# Altium schematic symbol library i.MX6_SoM.SCHLIB: 8 symbols
Pins are listed as number, name and electrical type; pins without a type are passive.

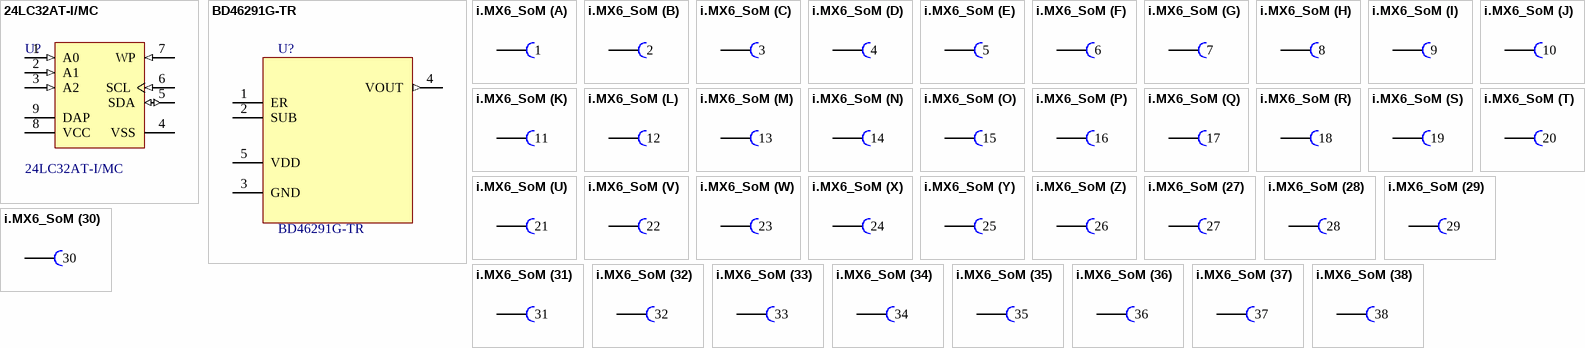
[diagram p0: symbols 24LC32AT-I/MC to i.MX6_SoM]

## 24LC32AT-I/MC
designator U?
32Kbit, 400kHz, 2.5V, I2C Serial EEPROM, 8-Pin DFN, Industrial Temperature, Tape and Reel; Manufacturer: Microchip; DatasheetVersion: revJ, Feb-2009; PackageDescription: 8-Lead Plastic Dual Flat, No Lead Package (MC) - 2x3x0.9mm Body [DFN]; PackageVersion: revBB, Aug-2009; PackageReference: DFN-MC8; Manufacturer Part Number: 24LC32AT-I/MC
footprint DFN-MC8 (SON, 8-Leads, Body 2x3mm, Pitch 0.5mm, Microchip Recommended)
pins: 1 A0 (in), 2 A1 (in), 3 A2 (in), 4 VSS (power), 5 SDA (io), 6 SCL (in), 7 WP (in), 8 VCC (power), 9 DAP (power)

## BD46291G-TR
designator U?
No Description Available; SourceLibrary: ROHM_2019-10-21; Built_By: EMA_Molly; Vendor: ROHM Semiconductor; Copyright: Copyright (C) 2018 Accelerated Designs. All rights reserved; Manufacturer_Part_Number: BD46291G-TR; RefDes: RefDes; Type: DEV
footprint SSOP5_ROM
pins: 1 ER, 2 SUB, 3 GND, 4 VOUT (out), 5 VDD (power)

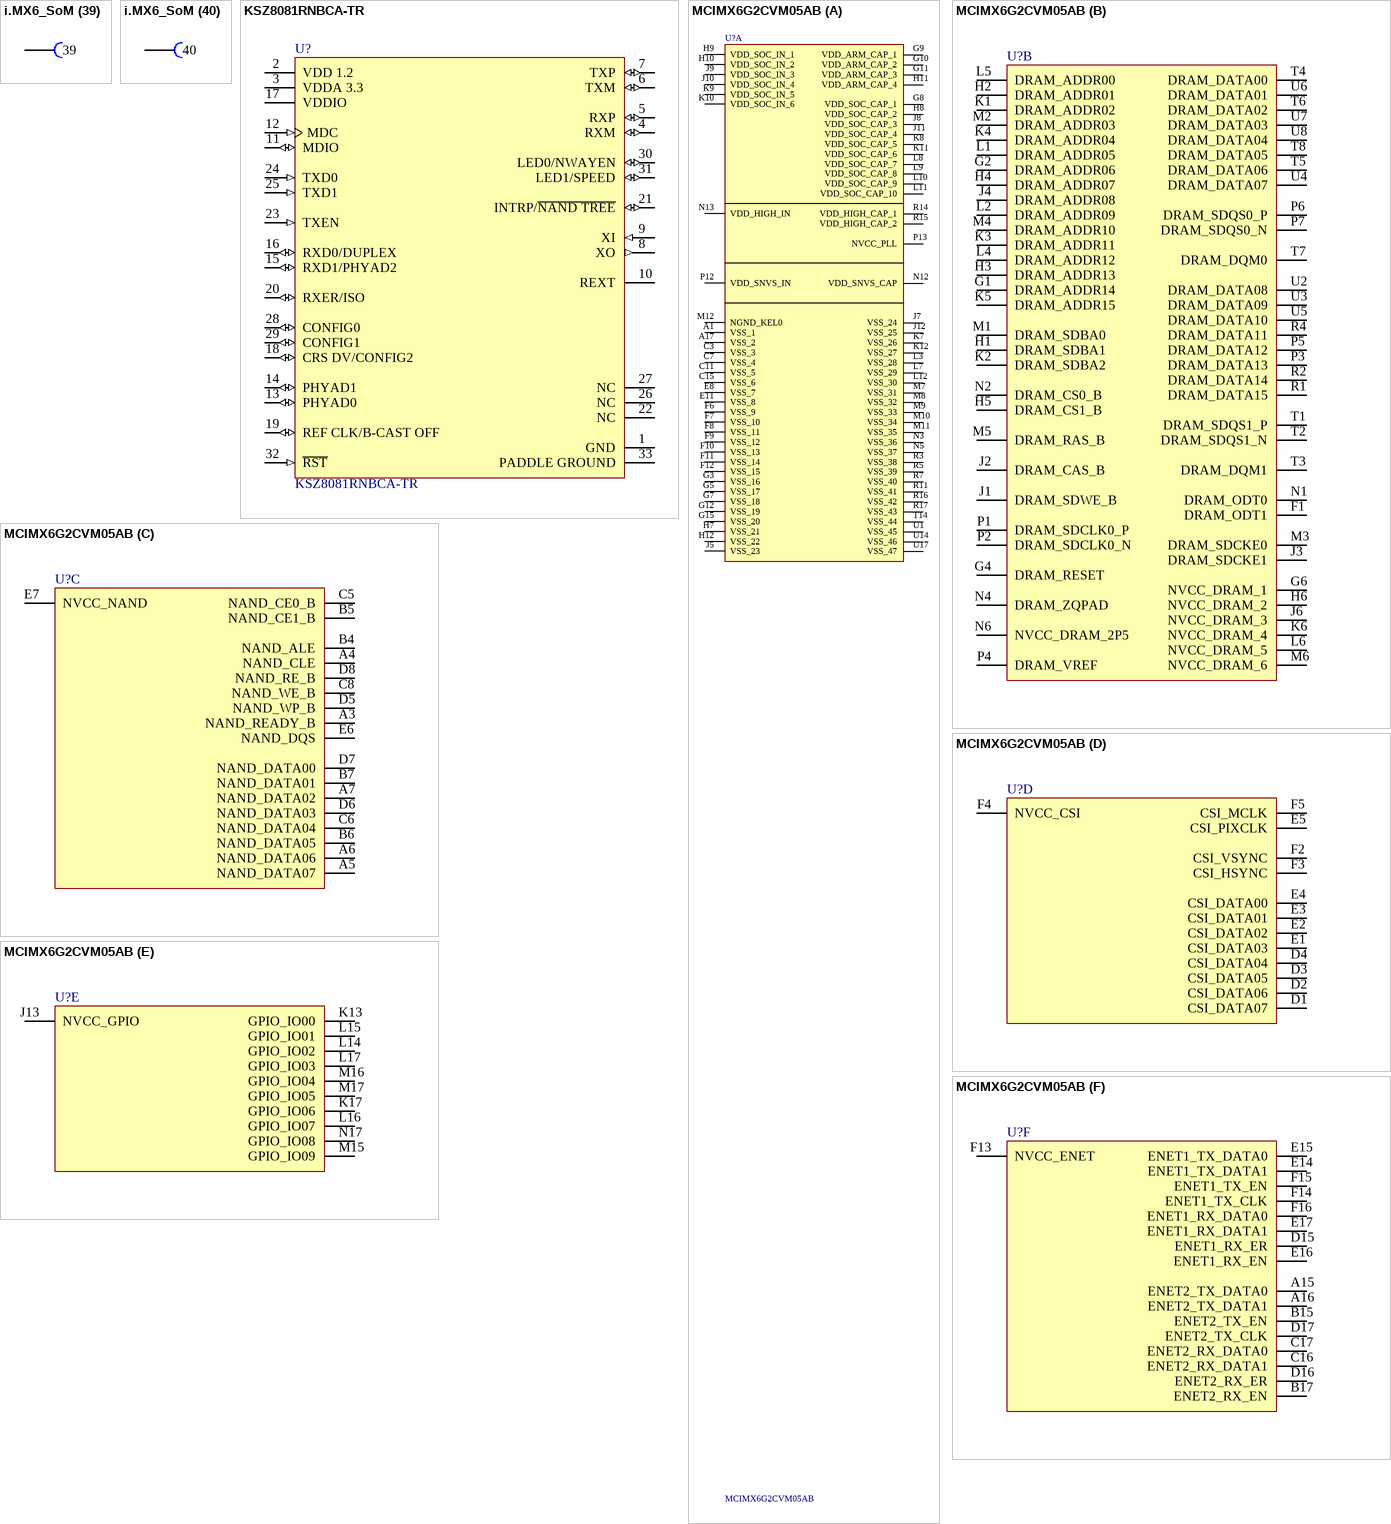
[diagram p1: symbols i.MX6_SoM to MCIMX6G2CVM05AB]

## i.MX6_SoM
designator i.MX6_SoM  (value not drawn)  (no BOM)
footprint i.MX6_SoM (Castellated holes and bottom pads for i.MX6_SoM)
part A pins: 1
part B pins: 2
part C pins: 3
part D pins: 4
part E pins: 5
part F pins: 6
part G pins: 7
part H pins: 8
part I pins: 9
part J pins: 10
part K pins: 11
part L pins: 12
part M pins: 13
part N pins: 14
part O pins: 15
part P pins: 16
part Q pins: 17
part R pins: 18
part S pins: 19
part T pins: 20
part U pins: 21
part V pins: 22
part W pins: 23
part X pins: 24
part Y pins: 25
part Z pins: 26
part 27 pins: 27
part 28 pins: 28
part 29 pins: 29
part 30 pins: 30
part 31 pins: 31
part 32 pins: 32
part 33 pins: 33
part 34 pins: 34
part 35 pins: 35
part 36 pins: 36
part 37 pins: 37
part 38 pins: 38
part 39 pins: 39
part 40 pins: 40
part 41 pins: 41
part 42 pins: 42
part 43 pins: 43
part 44 pins: 44
part 45 pins: 45
part 46 pins: 46
part 47 pins: 47
part 48 pins: 48
part 49 pins: 49
part 50 pins: 50
part 51 pins: 51
part 52 pins: 52
part 53 pins: 53
part 54 pins: 54
part 55 pins: 55
part 56 pins: 56
part 57 pins: 57
part 58 pins: 58
part 59 pins: 59
part 60 pins: 60
part 61 pins: 61
part 62 pins: 62
part 63 pins: 63
part 64 pins: 64
part 65 pins: 65
part 66 pins: 66
part 67 pins: 67
part 68 pins: 68
part 69 pins: 69
part 70 pins: 70
part 71 pins: 71
part 72 pins: 72
part 73 pins: 73
part 74 pins: 74
part 75 pins: 75
part 76 pins: 76
part 77 pins: 77
part 78 pins: 78
part 79 pins: 79
part 80 pins: 80
part 81 pins: 81
part 82 pins: 82
part 83 pins: 83
part 84 pins: 84
part 85 pins: 85
part 86 pins: 86
part 87 pins: 87
part 88 pins: 88
part 89 pins: 89
part 90 pins: 90
part 91 pins: 91
part 92 pins: 92
part 93 pins: 93
part 94 pins: 94
part 95 pins: 95
part 96 pins: 96
part 97 pins: 97
part 98 pins: 98
part 99 pins: 99
part 100 pins: 100
part 101 pins: 101
part 102 pins: 102
part 103 pins: 103
part 104 pins: 104
part 105 pins: 105
part 106 pins: 106
part 107 pins: 107
part 108 pins: 108
part 109 pins: 109
part 110 pins: 110
part 111 pins: 111
part 112 pins: 112
part 113 pins: 113
part 114 pins: 114
part 115 pins: 115
part 116 pins: 116
part 117 pins: 117
part 118 pins: 118
part 119 pins: 119
part 120 pins: 120
part 121 pins: 121
part 122 pins: 122
part 123 pins: 123
part 124 pins: 124
part 125 pins: 125
part 126 pins: 126
part 127 pins: 127
part 128 pins: 128
part 129 pins: 129
part 130 pins: 130
part 131 pins: 131
part 132 pins: 132
part 133 pins: 133
part 134 pins: 134
part 135 pins: 135
part 136 pins: 136
part 137 pins: 137
part 138 pins: 138
part 139 pins: 139
part 140 pins: 140
part 141 pins: 141
part 142 pins: 142
part 143 pins: 143
part 144 pins: 144
part 145 pins: 145
part 146 pins: 146
part 147 pins: 147
part 148 pins: 148
part 149 pins: 149
part 150 pins: 150
part 151 pins: 151
part 152 pins: 152
part 153 pins: 153
part 154 pins: 154
part 155 pins: 155
part 156 pins: 156
part 157 pins: 157
part 158 pins: 158
part 159 pins: 159

## KSZ8081RNBCA-TR
designator U?
IC TRANSCEIVER FULL 1/1 32QFN; Manufacturer: Microchip; Manufacturer Part Number: KSZ8081RNBCATR; Standoff Height: 0mm; Simplex Duplex: Full Duplex; Number Of Channels: 1; Data Rate: 100Mbits/s; Max Supply Voltage: 3.465V; Min Supply Voltage: 1.71V; Nominal Supply Current: 20-47mA; Interface: Ethernet,Other; Max Junction Temp: +125°C; Device Class L2: Interface ICs; Category: IC; Temperature: to +125°C; RoHS: TRUE; Mouser Description: Ethernet ICs 10/100 PHY,  0.11u; Package: QFN55-32LD-PL-5; ComponentLink2URL: http://ww1.microchip.com/downloads/en/DeviceDoc/00002202C.pdf; Digikey Description: IC TRANSCEIVER FULL 1/1 32QFN; Height: 1mm; Lead Free: Yes; Temperature Range High: +125°C; Octopart: https://octopart.com/ksz8081rnbca-tr-microchip-66799962; Device Class L1: Integrated Circuits (ICs); Ambient Temperature Range Low: 0°C; Automotive: No; ComponentLink2Description: Datasheet; Ambient Temperature Range High: +70°C; Device Class L3: Ethernet Interface ICs; Manufacturer Part Number: KSZ8081RNBCA-TR
footprint FP-QFN55-32LD-PL-5-MFG
footprint FP-QFN55-32LD-PL-5-IPC_C
footprint FP-QFN55-32LD-PL-5-IPC_B
footprint FP-QFN55-32LD-PL-5-IPC_A
pins: 1 GND (power), 2 VDD 1.2 (power), 3 VDDA 3.3 (power), 4 RXM (io), 5 RXP (io), 6 TXM (io), 7 TXP (io), 8 XO (out), 9 XI (in), 10 REXT, 11 MDIO (io), 12 MDC (in), 13 PHYAD0 (io), 14 PHYAD1 (io), 15 RXD1/PHYAD2 (io), 16 RXD0/DUPLEX (io), 17 VDDIO (power), 18 CRS DV/CONFIG2 (io), 19 REF CLK/B-CAST OFF (io), 20 RXER/ISO (io), 21 INTRP/~{NAND TREE} (io), 22 NC, 23 TXEN (in), 24 TXD0 (in), 25 TXD1 (in), 26 NC, 27 NC, 28 CONFIG0 (io), 29 CONFIG1 (io), 30 LED0/NWAYEN (io), 31 LED1/SPEED (io), 32 ~{RST} (in), 33 PADDLE GROUND (power)

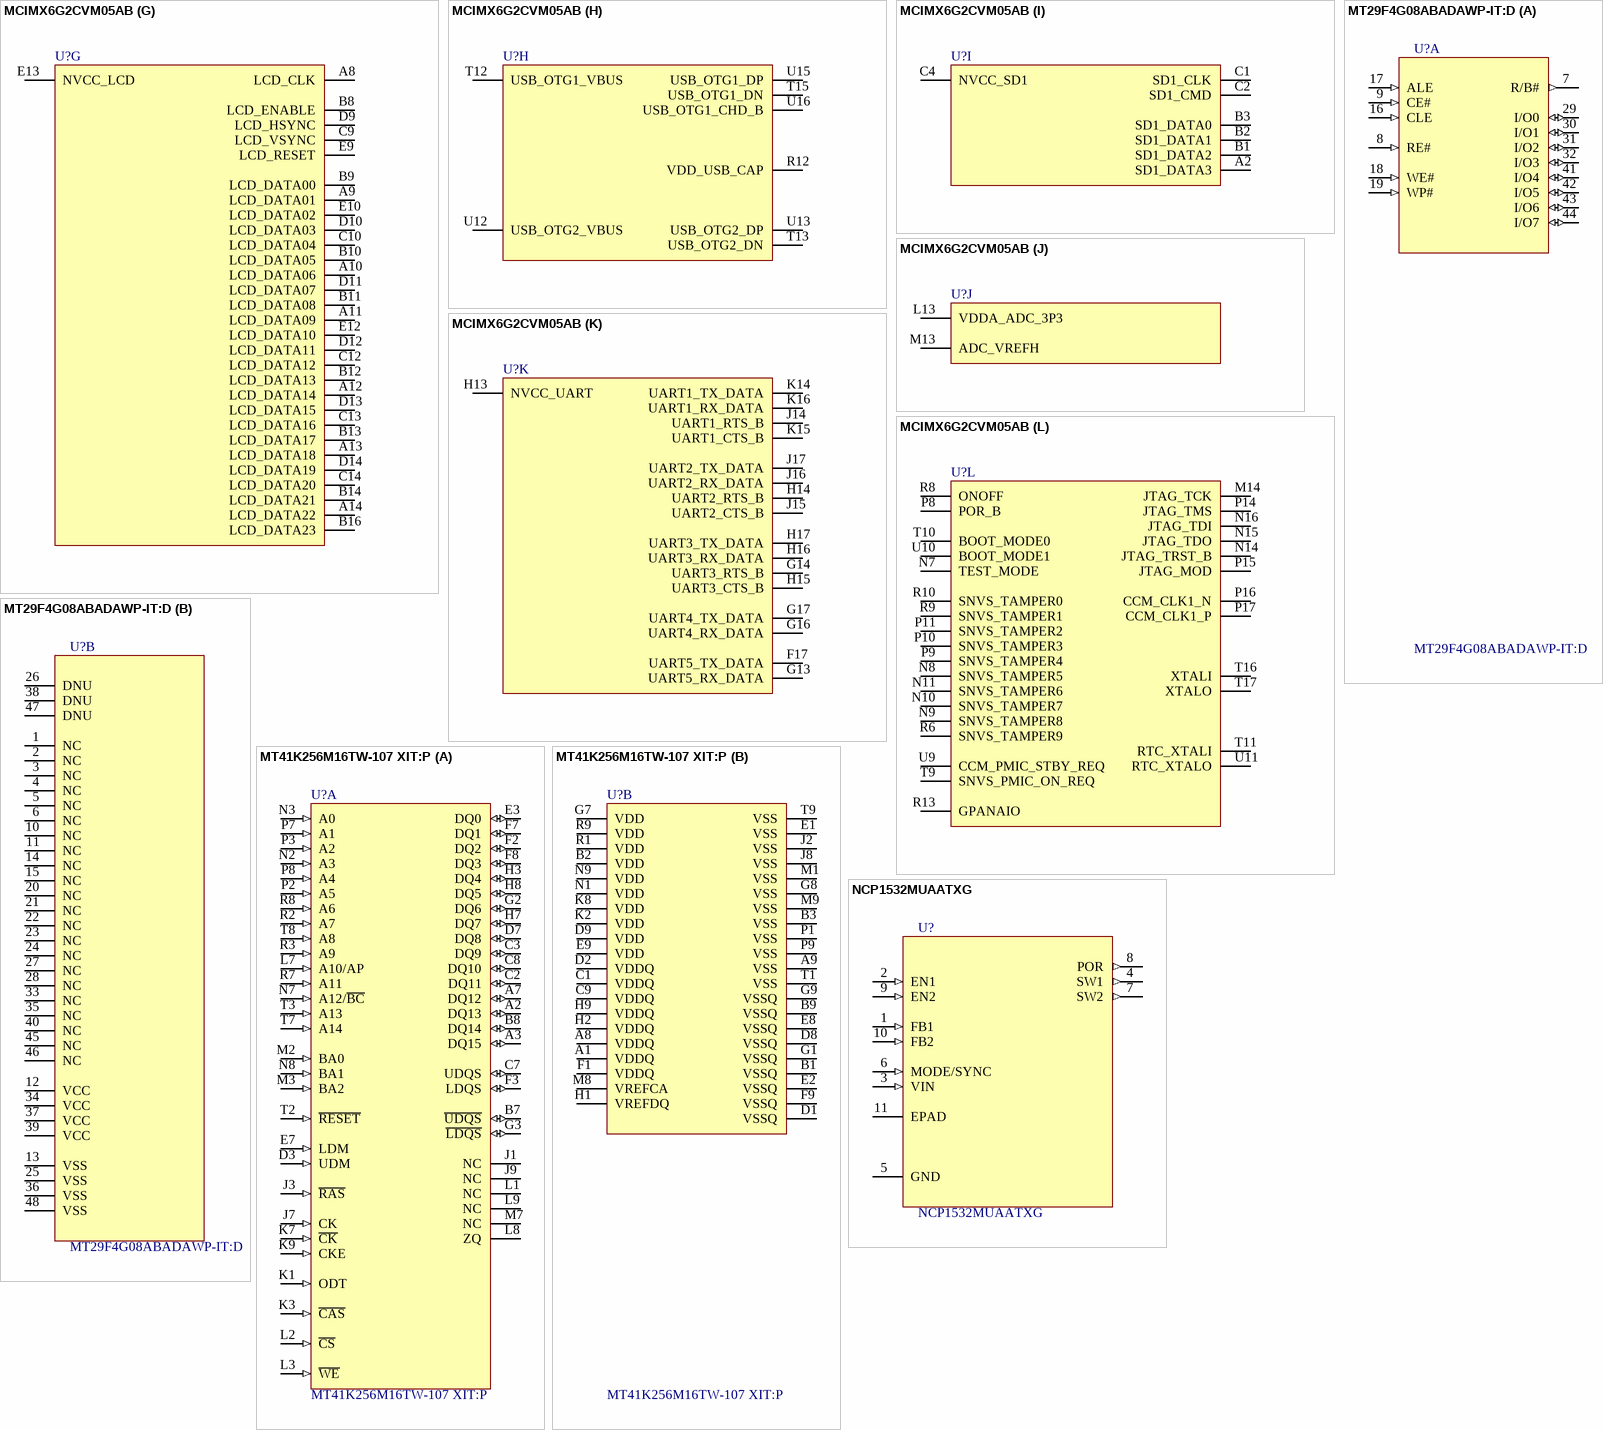
[diagram p2: symbols MCIMX6G2CVM05AB to NCP1532MUAATXG]

## MCIMX6G2CVM05AB
designator U?
Integrated Circuit; Manufacturer_Name: NXP; Datasheet Link: http://www.nxp.com/docs/en/data-sheet/IMX6ULCEC.pdf; Height: 1.32mm; Manufacturer_Part_Number: MCIMX6G2CVM05AB; Mouser Part Number: 841-MCIMX6G2CVM05AB; Mouser Price/Stock: https://www.mouser.co.uk/ProductDetail/NXP-Semiconductors/MCIMX6G2CVM05AB?qs=u4fy%2FsgLU9M9AAuedVdZFw%3D%3D; Arrow Part Number: MCIMX6G2CVM05AB; Arrow Price/Stock: https://www.arrow.com/en/products/mcimx6g2cvm05ab/nxp-semiconductors
footprint BGA289C80P17X17_1400X1400X132
part A pins: A1 VSS_1, A17 VSS_2, C3 VSS_3, C7 VSS_4, C11 VSS_5, C15 VSS_6, E8 VSS_7, E11 VSS_8, F6 VSS_9, F7 VSS_10, F8 VSS_11, F9 VSS_12, F10 VSS_13, F11 VSS_14, F12 VSS_15, G3 VSS_16, G5 VSS_17, G7 VSS_18, G8 VDD_SOC_CAP_1, G9 VDD_ARM_CAP_1, G10 VDD_ARM_CAP_2, G11 VDD_ARM_CAP_3, G12 VSS_19, G15 VSS_20, H7 VSS_21, H8 VDD_SOC_CAP_2, H9 VDD_SOC_IN_1, H10 VDD_SOC_IN_2, H11 VDD_ARM_CAP_4, H12 VSS_22, J5 VSS_23, J7 VSS_24, J8 VDD_SOC_CAP_3, J9 VDD_SOC_IN_3, J10 VDD_SOC_IN_4, J11 VDD_SOC_CAP_4, J12 VSS_25, K7 VSS_26, K8 VDD_SOC_CAP_5, K9 VDD_SOC_IN_5, K10 VDD_SOC_IN_6, K11 VDD_SOC_CAP_6, K12 VSS_27, L3 VSS_28, L7 VSS_29, L8 VDD_SOC_CAP_7, L9 VDD_SOC_CAP_8, L10 VDD_SOC_CAP_9, L11 VDD_SOC_CAP_10, L12 VSS_30, M7 VSS_31, M8 VSS_32, M9 VSS_33, M10 VSS_34, M11 VSS_35, M12 NGND_KEL0, N3 VSS_36, N5 VSS_37, N12 VDD_SNVS_CAP, N13 VDD_HIGH_IN, P12 VDD_SNVS_IN, P13 NVCC_PLL, R3 VSS_38, R5 VSS_39, R7 VSS_40, R11 VSS_41, R14 VDD_HIGH_CAP_1, R15 VDD_HIGH_CAP_2, R16 VSS_42, R17 VSS_43, T14 VSS_44, U1 VSS_45, U14 VSS_46, U17 VSS_47
part B pins: F1 DRAM_ODT1, G1 DRAM_ADDR14, G2 DRAM_ADDR06, G4 DRAM_RESET, G6 NVCC_DRAM_1, H1 DRAM_SDBA1, H2 DRAM_ADDR01, H3 DRAM_ADDR13, H4 DRAM_ADDR07, H5 DRAM_CS1_B, H6 NVCC_DRAM_2, J1 DRAM_SDWE_B, J2 DRAM_CAS_B, J3 DRAM_SDCKE1, J4 DRAM_ADDR08, J6 NVCC_DRAM_3, K1 DRAM_ADDR02, K2 DRAM_SDBA2, K3 DRAM_ADDR11, K4 DRAM_ADDR04, K5 DRAM_ADDR15, K6 NVCC_DRAM_4, L1 DRAM_ADDR05, L2 DRAM_ADDR09, L4 DRAM_ADDR12, L5 DRAM_ADDR00, L6 NVCC_DRAM_5, M1 DRAM_SDBA0, M2 DRAM_ADDR03, M3 DRAM_SDCKE0, M4 DRAM_ADDR10, M5 DRAM_RAS_B, M6 NVCC_DRAM_6, N1 DRAM_ODT0, N2 DRAM_CS0_B, N4 DRAM_ZQPAD, N6 NVCC_DRAM_2P5, P1 DRAM_SDCLK0_P, P2 DRAM_SDCLK0_N, P3 DRAM_DATA13, P4 DRAM_VREF, P5 DRAM_DATA12, P6 DRAM_SDQS0_P, P7 DRAM_SDQS0_N, R1 DRAM_DATA15, R2 DRAM_DATA14, R4 DRAM_DATA11, T1 DRAM_SDQS1_P, T2 DRAM_SDQS1_N, T3 DRAM_DQM1, T4 DRAM_DATA00, T5 DRAM_DATA06, T6 DRAM_DATA02, T7 DRAM_DQM0, T8 DRAM_DATA05, U2 DRAM_DATA08, U3 DRAM_DATA09, U4 DRAM_DATA07, U5 DRAM_DATA10, U6 DRAM_DATA01, U7 DRAM_DATA03, U8 DRAM_DATA04
part C pins: A3 NAND_READY_B, A4 NAND_CLE, A5 NAND_DATA07, A6 NAND_DATA06, A7 NAND_DATA02, B4 NAND_ALE, B5 NAND_CE1_B, B6 NAND_DATA05, B7 NAND_DATA01, C5 NAND_CE0_B, C6 NAND_DATA04, C8 NAND_WE_B, D5 NAND_WP_B, D6 NAND_DATA03, D7 NAND_DATA00, D8 NAND_RE_B, E6 NAND_DQS, E7 NVCC_NAND
part D pins: D1 CSI_DATA07, D2 CSI_DATA06, D3 CSI_DATA05, D4 CSI_DATA04, E1 CSI_DATA03, E2 CSI_DATA02, E3 CSI_DATA01, E4 CSI_DATA00, E5 CSI_PIXCLK, F2 CSI_VSYNC, F3 CSI_HSYNC, F4 NVCC_CSI, F5 CSI_MCLK
part E pins: J13 NVCC_GPIO, K13 GPIO_IO00, K17 GPIO_IO06, L14 GPIO_IO02, L15 GPIO_IO01, L16 GPIO_IO07, L17 GPIO_IO03, M15 GPIO_IO09, M16 GPIO_IO04, M17 GPIO_IO05, N17 GPIO_IO08
part F pins: A15 ENET2_TX_DATA0, A16 ENET2_TX_DATA1, B15 ENET2_TX_EN, B17 ENET2_RX_EN, C16 ENET2_RX_DATA1, C17 ENET2_RX_DATA0, D15 ENET1_RX_ER, D16 ENET2_RX_ER, D17 ENET2_TX_CLK, E14 ENET1_TX_DATA1, E15 ENET1_TX_DATA0, E16 ENET1_RX_EN, E17 ENET1_RX_DATA1, F13 NVCC_ENET, F14 ENET1_TX_CLK, F15 ENET1_TX_EN, F16 ENET1_RX_DATA0
part G pins: A8 LCD_CLK, A9 LCD_DATA01, A10 LCD_DATA06, A11 LCD_DATA09, A12 LCD_DATA14, A13 LCD_DATA18, A14 LCD_DATA22, B8 LCD_ENABLE, B9 LCD_DATA00, B10 LCD_DATA05, B11 LCD_DATA08, B12 LCD_DATA13, B13 LCD_DATA17, B14 LCD_DATA21, B16 LCD_DATA23, C9 LCD_VSYNC, C10 LCD_DATA04, C12 LCD_DATA12, C13 LCD_DATA16, C14 LCD_DATA20, D9 LCD_HSYNC, D10 LCD_DATA03, D11 LCD_DATA07, D12 LCD_DATA11, D13 LCD_DATA15, D14 LCD_DATA19, E9 LCD_RESET, E10 LCD_DATA02, E12 LCD_DATA10, E13 NVCC_LCD
part H pins: R12 VDD_USB_CAP, T12 USB_OTG1_VBUS, T13 USB_OTG2_DN, T15 USB_OTG1_DN, U12 USB_OTG2_VBUS, U13 USB_OTG2_DP, U15 USB_OTG1_DP, U16 USB_OTG1_CHD_B
part I pins: A2 SD1_DATA3, B1 SD1_DATA2, B2 SD1_DATA1, B3 SD1_DATA0, C1 SD1_CLK, C2 SD1_CMD, C4 NVCC_SD1
part J pins: L13 VDDA_ADC_3P3, M13 ADC_VREFH
part K pins: F17 UART5_TX_DATA, G13 UART5_RX_DATA, G14 UART3_RTS_B, G16 UART4_RX_DATA, G17 UART4_TX_DATA, H13 NVCC_UART, H14 UART2_RTS_B, H15 UART3_CTS_B, H16 UART3_RX_DATA, H17 UART3_TX_DATA, J14 UART1_RTS_B, J15 UART2_CTS_B, J16 UART2_RX_DATA, J17 UART2_TX_DATA, K14 UART1_TX_DATA, K15 UART1_CTS_B, K16 UART1_RX_DATA
part L pins: M14 JTAG_TCK, N7 TEST_MODE, N8 SNVS_TAMPER5, N9 SNVS_TAMPER8, N10 SNVS_TAMPER7, N11 SNVS_TAMPER6, N14 JTAG_TRST_B, N15 JTAG_TDO, N16 JTAG_TDI, P8 POR_B, P9 SNVS_TAMPER4, P10 SNVS_TAMPER3, P11 SNVS_TAMPER2, P14 JTAG_TMS, P15 JTAG_MOD, P16 CCM_CLK1_N, P17 CCM_CLK1_P, R6 SNVS_TAMPER9, R8 ONOFF, R9 SNVS_TAMPER1, R10 SNVS_TAMPER0, R13 GPANAIO, T9 SNVS_PMIC_ON_REQ, T10 BOOT_MODE0, T11 RTC_XTALI, T16 XTALI, T17 XTALO, U9 CCM_PMIC_STBY_REQ, U10 BOOT_MODE1, U11 RTC_XTALO

## MT29F4G08ABADAWP-IT:D
designator U?
No Description Available; SourceLibrary: Add_to_database_2020-12-08; Built_By: EMA_Cory; Vendor: Micron; Datasheet: https://www.mouser.com/datasheet/2/671/micron_technology_micts06228-1-1759217.pdf; Copyright: Copyright (C) 2018 Accelerated Designs. All rights reserved; Manufacturer_Part_Number: MT29F4G08ABADAWP-IT:D; RefDes: RefDes; Type: DEV
footprint TSOP48_TYPE1_CPL_MRN
part A pins: 7 R/B# (out), 8 RE# (in), 9 CE# (in), 16 CLE (in), 17 ALE (in), 18 WE# (in), 19 WP# (in), 29 I/O0 (io), 30 I/O1 (io), 31 I/O2 (io), 32 I/O3 (io), 41 I/O4 (io), 42 I/O5 (io), 43 I/O6 (io), 44 I/O7 (io)
part B pins: 1 NC, 2 NC, 3 NC, 4 NC, 5 NC, 6 NC, 10 NC, 11 NC, 12 VCC (power), 13 VSS, 14 NC, 15 NC, 20 NC, 21 NC, 22 NC, 23 NC, 24 NC, 25 VSS, 26 DNU, 27 NC, 28 NC, 33 NC, 34 VCC (power), 35 NC, 36 VSS, 37 VCC (power), 38 DNU, 39 VCC (power), 40 NC, 45 NC, 46 NC, 47 DNU, 48 VSS

## MT41K256M16TW-107 XIT:P
designator U?
IC DRAM 4GBIT PARALLEL 96FBGA; Manufacturer: Micron Technology; Data Bus Width: 16b; Address Bus Width: 15b; Operating Supply Voltage: 1.35V; Max Frequency: 933MHz; Density: 4Gb; Memory Type: RAM; Access Time: 1.07ns; RoHS Compliant: Yes; Mount: Surface Mount; Contact Plating: Copper; Interface: Parallel; Case/Package: TFBGA; Frequency: 933MHz; Min Operating Temperature: -40°C; Packaging: Tray; Max Operating Temperature: 95°C; Number of Pins: 96; Manufacturer Part Number: MT41K256M16TW-107 XIT:P
footprint FP-TW-MFG
footprint FP-TW-IPC_C
footprint FP-TW-IPC_B
footprint FP-TW-IPC_A
part A pins: A2 DQ13 (io), A3 DQ15 (io), A7 DQ12 (io), B7 ~{UDQS} (io), B8 DQ14 (io), C2 DQ11 (io), C3 DQ9 (io), C7 UDQS (io), C8 DQ10 (io), D3 UDM (in), D7 DQ8 (io), E3 DQ0 (io), E7 LDM (in), F2 DQ2 (io), F3 LDQS (io), F7 DQ1 (io), F8 DQ3 (io), G2 DQ6 (io), G3 ~{LDQS} (io), H3 DQ4 (io), H7 DQ7 (io), H8 DQ5 (io), J1 NC, J3 ~{RAS} (in), J7 CK (in), J9 NC, K1 ODT (in), K3 ~{CAS} (in), K7 ~{CK} (in), K9 CKE (in), L1 NC, L2 ~{CS} (in), L3 ~{WE} (in), L7 A10/AP (in), L8 ZQ, L9 NC, M2 BA0 (in), M3 BA2 (in), M7 NC, N2 A3 (in), N3 A0 (in), N7 A12/~{BC} (in), N8 BA1 (in), P2 A5 (in), P3 A2 (in), P7 A1 (in), P8 A4 (in), R2 A7 (in), R3 A9 (in), R7 A11 (in), R8 A6 (in), T2 ~{RESET} (in), T3 A13 (in), T7 A14 (in), T8 A8 (in)
part B pins: A1 VDDQ (power), A8 VDDQ (power), A9 VSS (power), B1 VSSQ (power), B2 VDD (power), B3 VSS (power), B9 VSSQ (power), C1 VDDQ (power), C9 VDDQ (power), D1 VSSQ (power), D2 VDDQ (power), D8 VSSQ (power), D9 VDD (power), E1 VSS (power), E2 VSSQ (power), E8 VSSQ (power), E9 VDD (power), F1 VDDQ (power), F9 VSSQ (power), G1 VSSQ (power), G7 VDD (power), G8 VSS (power), G9 VSSQ (power), H1 VREFDQ (power), H2 VDDQ (power), H9 VDDQ (power), J2 VSS (power), J8 VSS (power), K2 VDD (power), K8 VDD (power), M1 VSS (power), M8 VREFCA (power), M9 VSS (power), N1 VDD (power), N9 VDD (power), P1 VSS (power), P9 VSS (power), R1 VDD (power), R9 VDD (power), T1 VSS (power), T9 VSS (power)

## NCP1532MUAATXG
designator U?
No Description Available; SourceLibrary: ON_Semiconductor_2018-03-21; Built_By: EMA_Jessica; Vendor: ON Semiconductor; Copyright: Copyright (C) 2016 Accelerated Designs. All rights reserved; Manufacturer_Part_Number: NCP1532MUAATXG; RefDes: RefDes; Type: DEV
footprint UDFN10_3X3_ONS
pins: 1 FB1 (in), 2 EN1 (in), 3 VIN (in), 4 SW1 (out), 5 GND (power), 6 MODE/SYNC (in), 7 SW2 (out), 8 POR (out), 9 EN2 (in), 10 FB2 (in), 11 EPAD